# Altium footprint library PcbLib1.PcbLib: 30 footprints (part 2 of 2)
Each footprint in its own frame and in the unit in brackets; x right, y up, seen from the top. Pads: shape width x height; smd on the part's side, far side on the other; paste and mask are expansions set on the pad; w line width, h text height; cw(c..) or ccw(c..) is an arc to the next point about the centre after c.
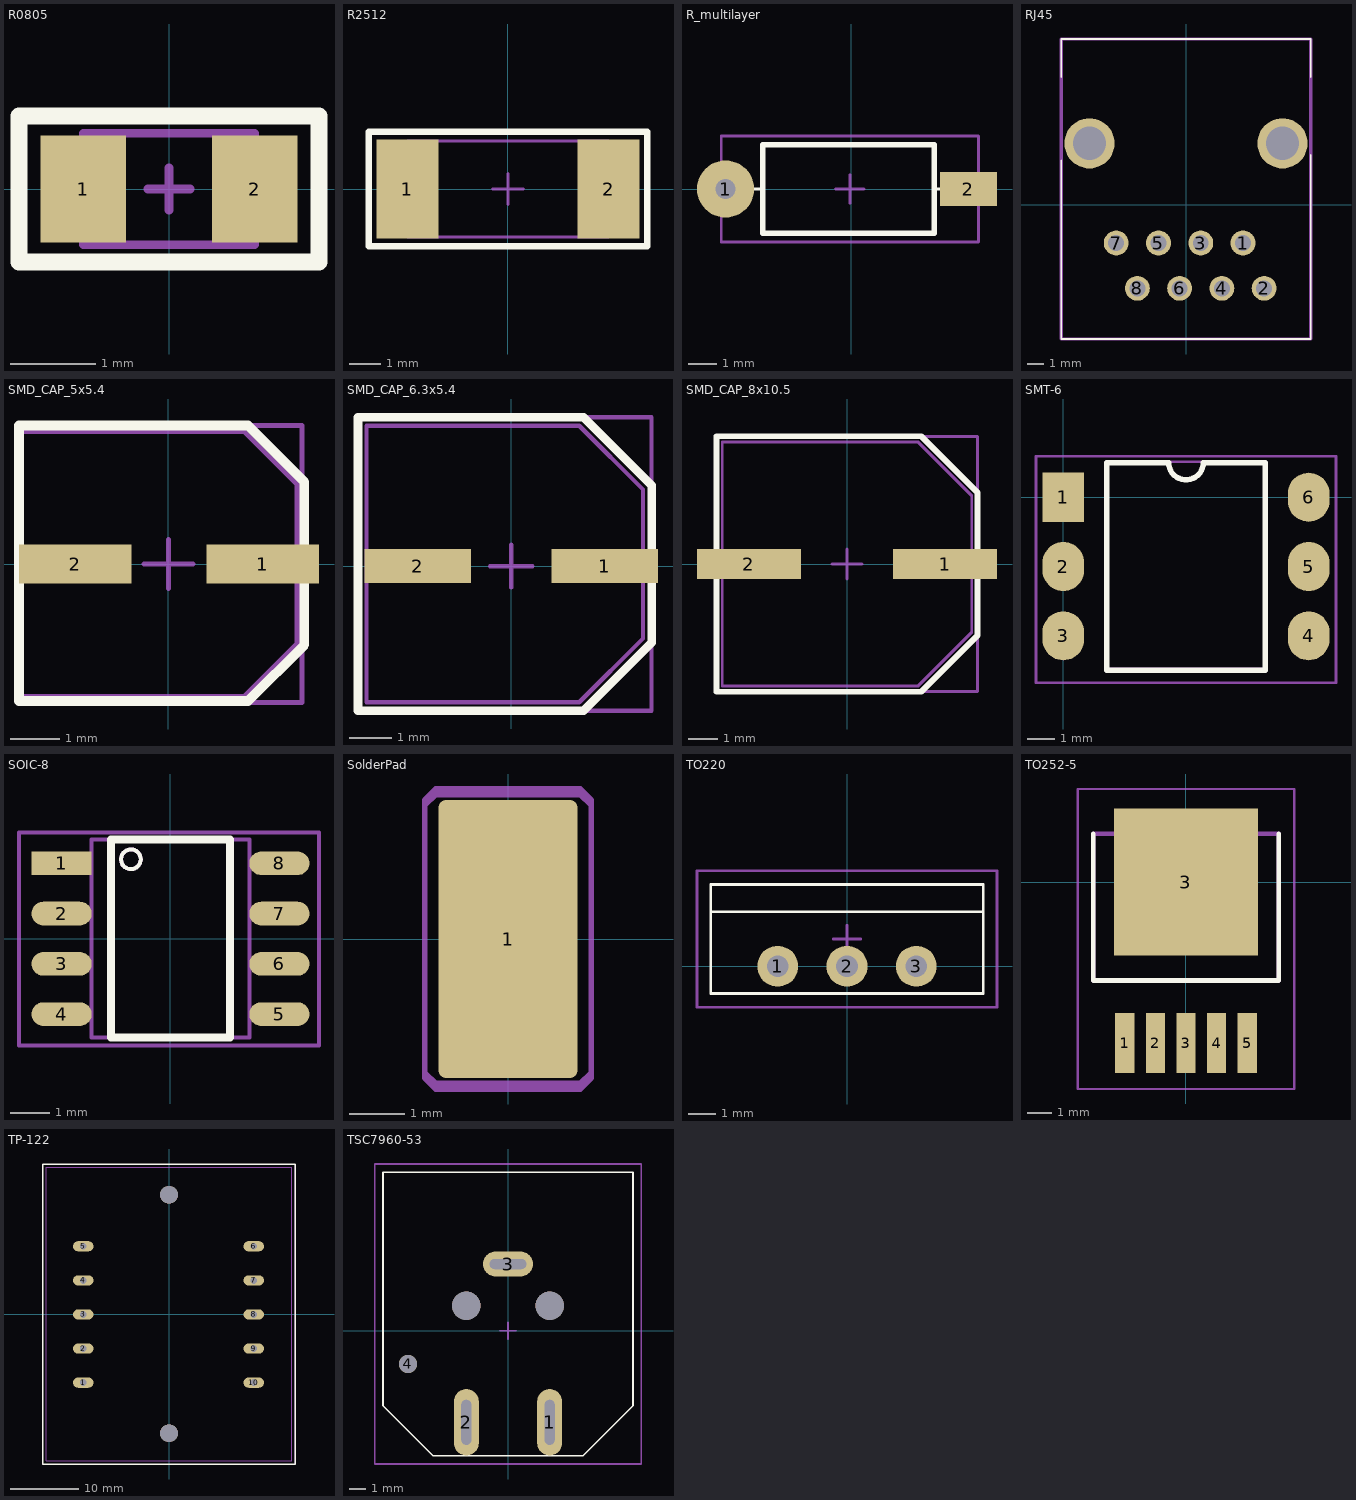
[diagram p1: the footprints below, top view; thin cyan lines are the x and y axes]

## R0805 [mm]
pads (2):
  rect 1x1.25 smd: 1(-1,0) 2(1,0)
Top Overlay:
  lines w0.2: -1.75,-0.85 -1.75,0.85 1.75,0.85 1.75,-0.85 -1.75,-0.85
Top Assy:
  lines w0.1: -1,-0.65 -1,0.65 1,0.65 1,-0.65 -1,-0.65
Borders:
  lines w0.1: -0.25,0 0.25,0 ; 0,-0.25 0,0.25 ; -1.75,-0.85 -1.75,0.85 1.75,0.85 1.75,-0.85 -1.75,-0.85
3D body "User Library-Generic 0805 Chip Resistor.STEP": height 0.75, standoff 0, extent -1.15,-0.675 1.15,0.675

## R2512 [mm]
pads (2):
  rect 2x3.2 smd: 1(-3.25,0) 2(3.25,0)
Top Overlay:
  lines w0.2: -4.5,-1.85 -4.5,1.85 4.5,1.85 4.5,-1.85 -4.5,-1.85
Top Assy:
  lines w0.1: -3.25,-1.55 -3.25,1.55 3.25,1.55 3.25,-1.55 -3.25,-1.55
Borders:
  lines w0.1: -0.5,0 0.5,0 ; 0,-0.5 0,0.5 ; -4.5,-1.85 -4.5,1.85 4.5,1.85 4.5,-1.85 -4.5,-1.85
3D body "User Library-Resistor SMD 2512.STEP": height 0.65, standoff 0, extent -3.2,-1.6 3.2,1.6

## R_multilayer [mm]
pads (2):
  round 2 hole 0.7: 1(-4.4,0)
  rect 2x1.2 smd: 2(4.1,0)
Top Overlay:
  lines w0.1: -3.5,0 -3.1,0 ; 2.9,0 3.4,0
  lines w0.2: -3.1,-1.55 -3.1,1.55 2.9,1.55 2.9,-1.55 -3.1,-1.55
Top Assy:
  lines w0.1: -3.1,-1.55 -3.1,1.55 2.9,1.55 2.9,-1.55 -3.1,-1.55
Borders:
  lines w0.1: -0.55,0 0.45,0 ; -0.05,-0.5 -0.05,0.5 ; -4.55,-1.85 -4.55,1.85 4.45,1.85 4.45,-1.85 -4.55,-1.85

## RJ45 [mm] "Connector"
pads (10):
  round 1.493 hole 0.96: 1(3.427,-2.286) 2(4.697,-5.007) 3(0.887,-2.286) 4(2.157,-5.007) 5(-1.653,-2.286) 6(-0.383,-5.007) 7(-4.193,-2.286) 8(-2.923,-5.007)
  round 3.015 hole 2.01: ""(-5.8,3.7) ""(5.8,3.7)
Top Overlay:
  lines w0.1: -7.5,2.685 -7.5,-8.055 7.5,-8.055 7.5,1.297 7.5,3 ; -7.5,7.685 -7.5,9.975 7.5,9.975 7.5,7.685
3D view:
  lines w0.2: -7.5,-8.055 7.5,-8.055 7.5,9.975 -7.5,9.975 -7.5,-8.055

## SMD_CAP_5x5.4 [mm]
pads (2):
  rect 2.3x0.8 smd: 1(1.925,0) 2(-1.9,0)
Top Overlay:
  lines w0.2: 2.775,0 2.775,1.675 1.625,2.825 -3.05,2.825 -3.05,-2.8 1.625,-2.8 2.775,-1.65 2.775,0.025
Top Assy:
  lines w0.1: -3,-2.7 1.55,-2.7 2.625,-1.625 2.625,0 2.625,1.625 1.55,2.7 -3,2.7 -3,-2.7
Borders:
  lines w0.1: -0.5,0 0.5,0 ; 0,-0.5 0,0.5 ; -3.025,-2.825 2.725,-2.825 2.725,2.825 -3.025,2.825 -3.025,-2.825
3D body "User Library-CEL5D53S54H.STEP": height 5.4, standoff 0, extent -2.95,-2.65 2.95,2.65

## SMD_CAP_6.3x5.4 [mm]
pads (2):
  rect 2.5x0.8 smd: 1(2.2,0) 2(-2.2,0)
Top Overlay:
  lines w0.2: -3.6,-3.4 1.7,-3.4 3.3,-1.8 3.3,1.9 1.7,3.5 -3.6,3.5 -3.6,-3.4
Top Assy:
  lines w0.1: -3.4,-3.2 -3.4,3.3 1.6,3.3 3.1,1.8 3.1,-0.475 3.1,-1.7 1.6,-3.2 -3.4,-3.2
Borders:
  lines w0.1: -0.5,0 0.5,0 ; 0,-0.5 0,0.5 ; -3.6,-3.4 -3.6,3.5 3.3,3.5 3.3,-3.4 -3.6,-3.4
3D body "User Library-CEL63D66S54H.STEP": height 5.4, standoff 0, extent -3.5,-3.3 3.5,3.3

## SMD_CAP_8x10.5 [mm]
pads (2):
  rect 3.5x1 smd: 1(3.3,0) 2(-3.3,0)
Top Overlay:
  lines w0.2: -4.4,-4.3 2.5,-4.3 4.4,-2.4 4.4,2.4 2.5,4.3 -4.4,4.3 -4.4,-4.3
Top Assy:
  lines w0.1: -4.2,-4.1 -4.2,4.1 2.4,4.1 4.2,2.3 4.2,0.025 4.2,-2.3 2.4,-4.1 -4.2,-4.1
Borders:
  lines w0.1: -0.5,0 0.5,0 ; 0,-0.5 0,0.5 ; -4.4,-4.3 -4.4,4.3 4.4,4.3 4.4,-4.3 -4.4,-4.3
3D body "User Library-CEL8D85S105H.step": height 10.31, standoff 0.1, extent -4.95,-4.15 4.95,4.15

## SMT-6 [mm]
pads (6):
  rect 1.52x1.8 smd: 1(0,0)
  oval 1.52x1.8 smd: 2(0,-2.54) 3(0,-5.08) 4(9,-5.08) 5(9,-2.54) 6(9,0)
Top Overlay:
  lines w0.2: 1.595,-6.35 1.595,1.27 3.865,1.27 ccw(c4.5,1.27) 5.135,1.27 7.405,1.27 7.405,-6.35 1.595,-6.35
Top Assy:
  lines w0.1: 1.6,-6.3 7.4,-6.3 7.4,1.3 1.6,1.3 1.6,-6.3
Borders:
  lines w0.1: -1,-6.8 10,-6.8 10,1.5 -1,1.5 -1,-6.8
3D body "CircuitWorks-DIP6.step": height 4.31, standoff -3.28, extent 0.5,-6.64 8.5,1.44

## SOIC-8 [mm]
pads (8):
  rect 1.52x0.6 smd: 1(-2.75,1.9)
  oval 1.52x0.6 smd: 2(-2.75,0.63) 3(-2.75,-0.64) 4(-2.75,-1.91) 5(2.75,-1.91) 6(2.75,-0.64) 7(2.75,0.63) 8(2.75,1.9)
Top Overlay:
  circle w0.1: c-1,2 r0.25
  lines w0.2: -1.5,-2.5 -1.5,2.5 1.5,2.5 1.5,-2.5 -1.5,-2.5
Top Assy:
  circle w0.1: c-1,2 r0.25
  circle w0.1: c-1,2 r0.25
  lines w0.1: -1.5,-2.5 -1.5,2.5 ; -2,-2.5 -2,2.5 2,2.5 2,-2.5 -2,-2.5
Borders:
  lines w0.1: -3.825,-2.7 -3.825,2.675 3.75,2.675 3.75,-2.7 -3.825,-2.7
3D body "User Library-so8-3.step": height 1.7, standoff 0, extent -3,-2.45 3,2.45

## SolderPad [mm]
pads (1):
  rrect10% 2.5x5 smd: 1(0,0)
Top Assy:
  lines w0.1: -1.5,-2.4 -1.3,-2.6 1.3,-2.6 1.5,-2.4 1.5,2.4 1.3,2.6 -1.3,2.6 -1.5,2.4 -1.5,-2.4
Borders:
  lines w0.1: -1.5,-2.5 -1.3,-2.7 1.3,-2.7 1.5,-2.5 1.5,2.5 1.3,2.7 -1.3,2.7 -1.5,2.5 -1.5,-2.5

## TO220 [mm]
pads (3):
  round 1.5 hole 0.8 unplated: 1(-2.54,0) 2(0,0) 3(2.54,0)
Top Overlay:
  lines w0.1: -5,2 5,2 ; -5,-1 5,-1 5,3 -5,3 -5,-1
Borders:
  lines w0.1: -0.5,1 0.5,1 ; 0,0.5 0,1.5 ; -5.5,-1.5 5.5,-1.5 5.5,3.5 -5.5,3.5 -5.5,-1.5

## TO252-5 [mm]
pads (6):
  rect 0.8x2.5 smd: 1(-2.54,-6.695) 2(-1.27,-6.695) 3(0,-6.695) 4(1.27,-6.695) 5(2.54,-6.695)
  rect 6x6.1 smd: 3(0,0)
Top Overlay:
  lines w0.2: -3.85,2.005 -3.85,-4.095 3.85,-4.095 3.85,2.005
3D view:
  lines w0.2: -3.85,-4.095 -3.85,2.005 3.85,2.005 3.85,-4.095 -3.85,-4.095
Borders:
  lines w0.1: -4.5,-8.6 -4.5,-5.134 -4.5,0.399 -4.5,3.865 4.5,3.865 4.5,-8.6 -4.5,-8.6

## TP-122 [mm]
pads (10):
  oval 3x1.5 hole 1: 1(-12.577,-10.07) 2(-12.577,-5.07) 3(-12.577,-0.07) 4(-12.577,4.93) 5(-12.577,9.93) 6(12.423,9.93) 7(12.423,4.93) 8(12.423,-0.07) 9(12.423,-5.07) 10(12.423,-10.07)
via 0,17.5 diameter 2.6 hole 2.6
via 0,-17.5 diameter 2.6 hole 2.6
Top Overlay:
  lines w0.2: -18.5,-22 18.5,-22 18.5,22 -18.5,22 -18.5,-22
Top Assy:
  lines w0.1: -18,-21.5 18,-21.5 18,21.5 -18,21.5 -18,-21.5
Borders:
  lines w0.1: -18.5,-22 18.5,-22 18.5,22 -18.5,22 -18.5,-22
3D body "User Library-TP-121.step": height 33.5, standoff -4, extent -18,-21.5 18,21.5

## TSC7960-53 [mm] "Connector"
pads (6):
  oval 1.5x4 hole 0.6 slot 2.7 at 90 deg unplated: 1(2.5,-5.5) 2(-2.5,-5.5)
  oval 3x1.5 hole 0.6 slot 2.2 at 0 deg unplated: 3(0,4)
  round 1.1 hole 1.1 unplated: 4(-6,-2)
  round 1.7 hole 1.7 unplated: ""(-2.5,1.5) ""(2.5,1.5)
Top Overlay:
  lines w0.1: -7.5,-4.5 -4.5,-7.5 4.5,-7.5 7.5,-4.5 7.5,9.5 -7.5,9.5 -7.5,-4.5
Borders:
  lines w0.1: -0.5,0 0.5,0 ; 0,-0.5 0,0.5 ; -8,-8 8,-8 8,10 4,10 -8,10 -8,-8